# EAGLE library part ESP8266 (library dawidkulpa_modules)
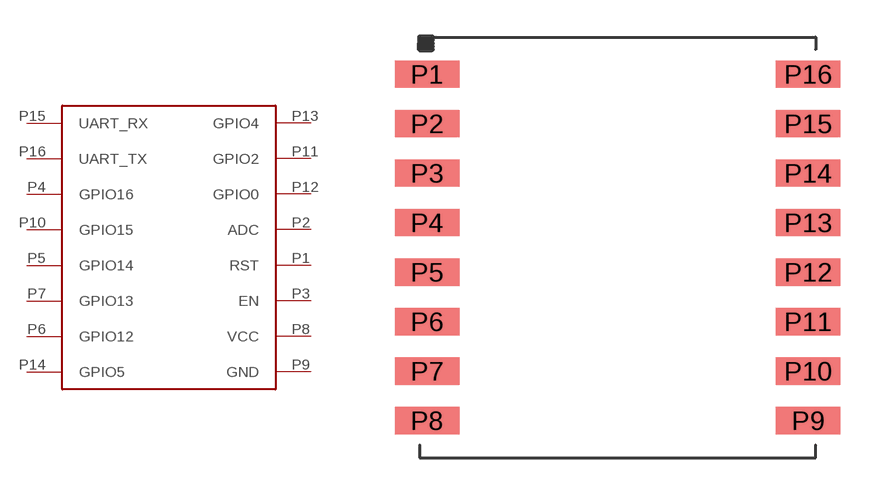
[diagram p3: symbol with the pads of ESP8266; footprint ESP8266]

Designator prefix -

## ESP8266  [ESP8266]
P1  RST
P2  ADC
P3  EN
P4  GPIO16
P5  GPIO14
P6  GPIO12
P7  GPIO13
P8  VCC
P9  GND
P10  GPIO15
P11  GPIO2
P12  GPIO0
P13  GPIO4
P14  GPIO5
P15  UART_RX
P16  UART_TX

## Footprint ESP8266 (pad centres in mm)
smd 2.6 x 1.1: P1 -7.7,7; P2 -7.7,5; P3 -7.7,3; P4 -7.7,1; P5 -7.7,-1; P6 -7.7,-3; P7 -7.7,-5; P8 -7.7,-7; P9 7.7,-7; P10 7.7,-5; P11 7.7,-3; P12 7.7,-1; P13 7.7,1; P14 7.7,3; P15 7.7,5; P16 7.7,7